# Altium schematic symbol library PADsHoles.SchLib: 1 symbol
Pins are listed as number, name and electrical type; pins without a type are passive.

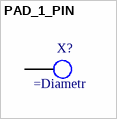
[diagram p0: symbol PAD_1_PIN]

## PAD_1_PIN
designator X?  (no BOM)
pins: 1